# Altium schematic symbol library Allwinner A33.Schlib: 1 symbol
Pins are listed as number, name and electrical type; pins without a type are passive.

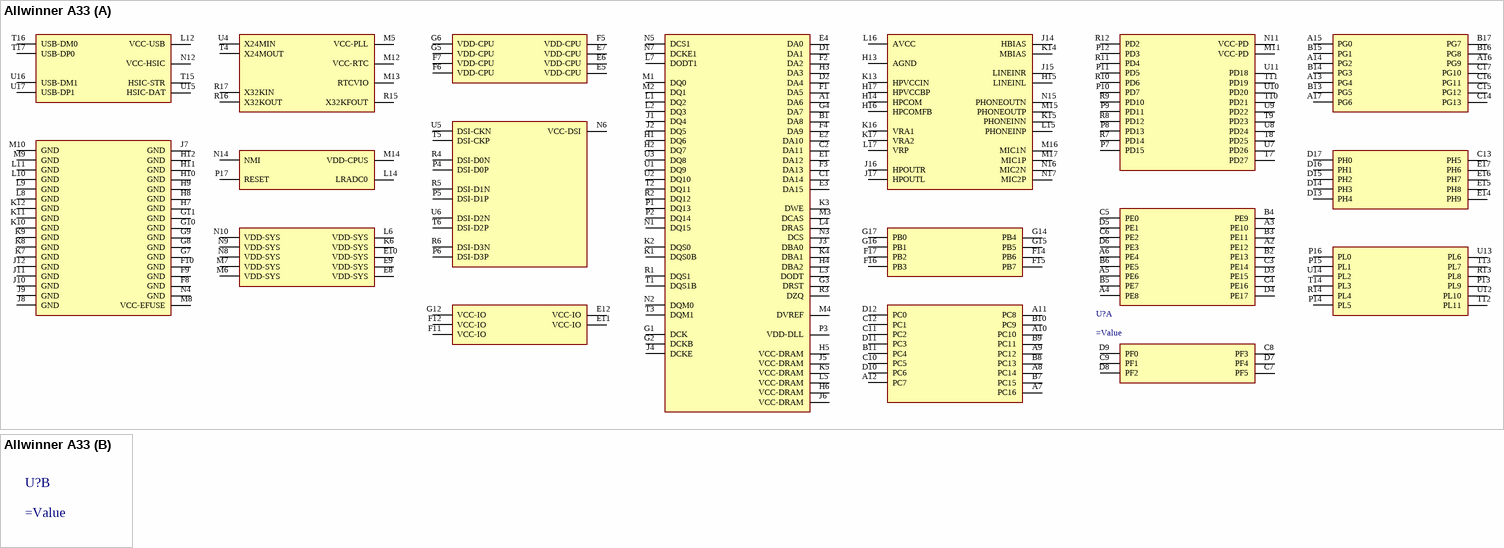
[diagram p0: symbol Allwinner A33]

## Allwinner A33
designator U?
part A pins: A1 DA6, A2 PE12, A3 PE10, A4 PE8, A5 PE6, A6 PE4, A7 PC16, A8 PC14, A9 PC12, A10 PC10, A11 PC8, A12 PC7, A13 PG4, A14 PG2, A15 PG0, A16 PG9, A17 PG6, B1 DA8, B2 PE13, B3 PE11, B4 PE9, B5 PE7, B6 PE5, B7 PC15, B8 PC13, B9 PC11, B10 PC9, B11 PC4, B13 PG5, B14 PG3, B15 PG1, B16 PG8, B17 PG7, C1 DA14, C2 DA11, C3 PE14, C4 PE16, C5 PE0, C6 PE2, C7 PF5, C8 PF3, C9 PF1, C10 PC5, C11 PC2, C12 PC1, C13 PH5, C14 PG13, C15 PG12, C16 PG11, C17 PG10, D1 DA1, D2 DA4, D3 PE15, D4 PE17, D5 PE1, D6 PE3, D7 PF4, D8 PF2, D9 PF0, D10 PC6, D11 PC3, D12 PC0, D13 PH4, D14 PH3, D15 PH2, D16 PH1, D17 PH0, E1 DA12, E2 DA10, E3 DA15, E4 DA0, E5 VDD-CPU, E6 VDD-CPU, E7 VDD-CPU, E8 VDD-SYS, E9 VDD-SYS, E10 VDD-SYS, E11 VCC-IO, E12 VCC-IO, E14 PH9, E15 PH8, E16 PH7, E17 PH6, F1 DA5, F2 DA2, F3 DA13, F4 DA9, F5 VDD-CPU, F6 VDD-CPU, F7 VDD-CPU, F8 GND, F9 GND, F10 GND, F11 VCC-IO, F12 VCC-IO, F14 PB6, F15 PB7, F16 PB3, F17 PB2, G1 DCK, G2 DCKB, G3 DRST, G4 DA7, G5 VDD-CPU, G6 VDD-CPU, G7 GND, G8 GND, G9 GND, G10 GND, G11 GND, G12 VCC-IO, G14 PB4, G15 PB5, G16 PB1, G17 PB0, H1 DQ6, H2 DQ7, H3 DA3, H4 DBA2, H5 VCC-DRAM, H6 VCC-DRAM, H7 GND, H8 GND, H9 GND, H10 GND, H11 GND, H12 GND, H13 AGND, H14 HPCOM, H15 LINEINL, H16 HPCOMFB, H17 HPVCCBP, J1 DQ4, J2 DQ5, J3 DBA0, J4 DCKE, J5 VCC-DRAM, J6 VCC-DRAM, J7 GND, J8 GND, J9 GND, J10 GND, J11 GND, J12 GND, J14 HBIAS, J15 LINEINR, J16 HPOUTR, J17 HPOUTL, K1 DQS0B, K2 DQS0, K3 DWE, K4 DBA1, K5 VCC-DRAM, K6 VDD-SYS, K7 GND, K8 GND, K9 GND, K10 GND, K11 GND, K12 GND, K13 HPVCCIN, K14 MBIAS, K15 PHONEINN, K16 VRA1, K17 VRA2, L1 DQ2, L2 DQ3, L3 DODT, L4 DRAS, L5 VCC-DRAM, L6 VDD-SYS, L7 DODT1, L8 GND, L9 GND, L10 GND, L11 GND, L12 VCC-USB, L14 LRADC0, L15 PHONEINP, L16 AVCC, L17 VRP, M1 DQ0, M2 DQ1, M3 DCAS, M4 DVREF, M5 VCC-PLL, M6 VDD-SYS, M7 VDD-SYS, M8 VCC-EFUSE, M9 GND, M10 GND, M11 VCC-PD, M12 VCC-RTC, M13 RTCVIO, M14 VDD-CPUS, M15 PHONEOUTP, M16 MIC1N, M17 MIC1P, N1 DQ15, N2 DQM0, N3 DCS, N4 GND, N5 DCS1, N6 VCC-DSI, N7 DCKE1, N8 VDD-SYS, N9 VDD-SYS, N10 VDD-SYS, N11 VCC-PD, N12 VCC-HSIC, N14 NMI, N15 PHONEOUTN, N16 MIC2N, N17 MIC2P, P1 DQ13, P2 DQ14, P3 VDD-DLL, P4 DSI-D0P, P5 DSI-D1P, P6 DSI-D3P, P7 PD15, P8 PD13, P9 PD11, P10 PD7, P11 PD5, P12 PD3, P13 PL9, P14 PL5, P15 PL1, P16 PL0, P17 RESET, R1 DQS1, R2 DQ12, R3 DZQ, R4 DSI-D0N, R5 DSI-D1N, R6 DSI-D3N, R7 PD14, R8 PD12, R9 PD10, R10 PD6, R11 PD4, R12 PD2, R13 PL8, R14 PL4, R15 X32KFOUT, R16 X32KOUT, R17 X32KIN, T1 DQS1B, T2 DQ11, T3 DQM1, T4 X24MOUT, T5 DSI-CKP, T6 DSI-D2P, T7 PD27, T8 PD25, T9 PD23, T10 PD21, T11 PD19, T12 PL11, T13 PL7, T14 PL3, T15 HSIC-STR, T16 USB-DM0, T17 USB-DP0, U1 DQ9, U2 DQ10, U3 DQ8, U4 X24MIN, U5 DSI-CKN, U6 DSI-D2N, U7 PD26, U8 PD24, U9 PD22, U10 PD20, U11 PD18, U12 PL10, U13 PL6, U14 PL2, U15 HSIC-DAT, U16 USB-DM1, U17 USB-DP1